# EAGLE library part H8S/2377R (library renesas)
H8S/2377R - TQFP 144 - 22 x 22 on 0.5mm pitch
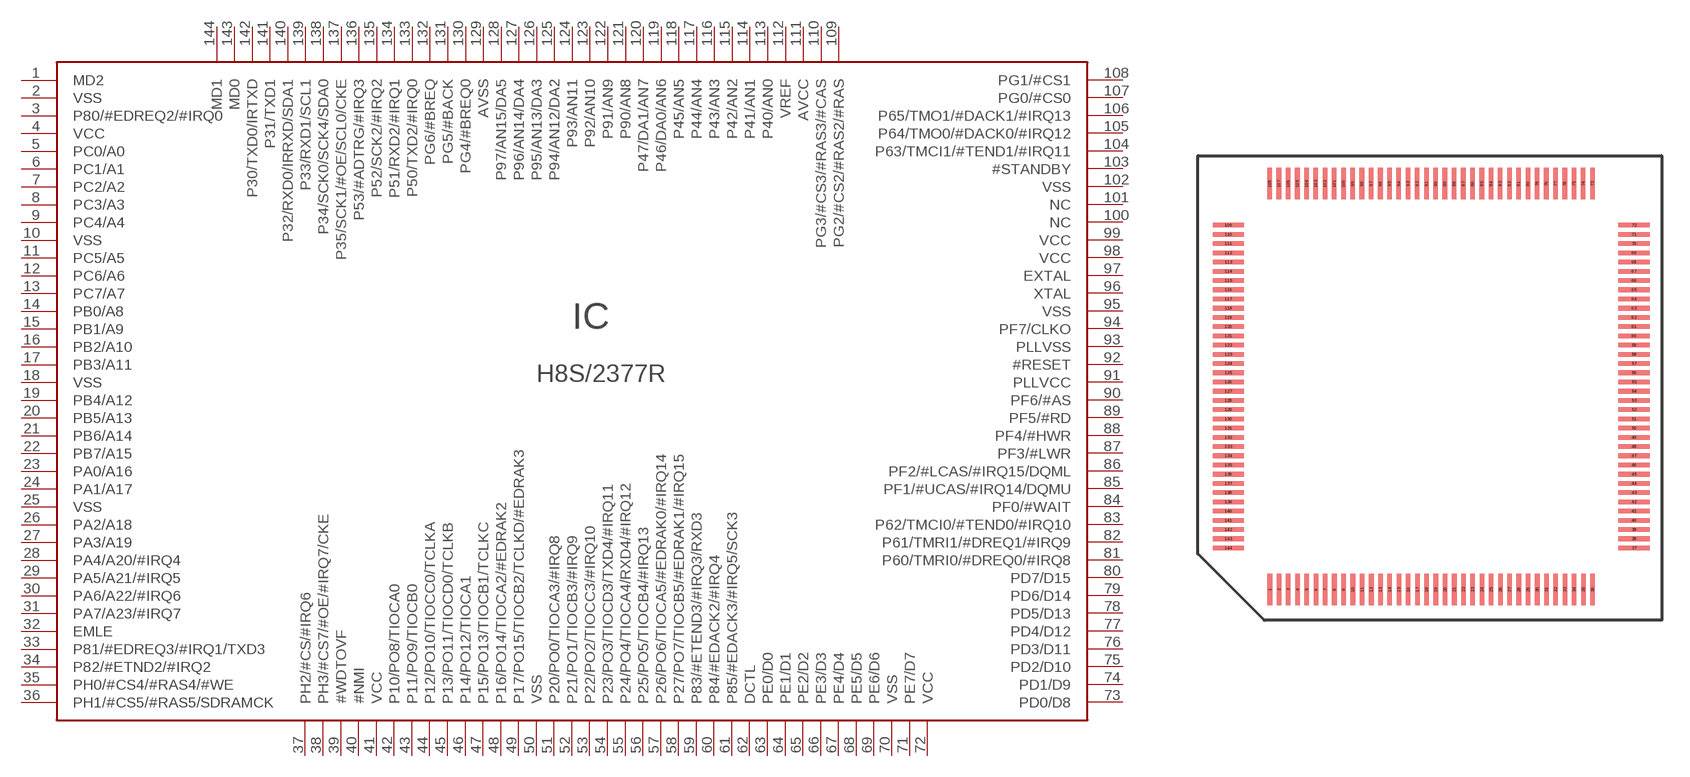
[diagram p42: symbol with the pads of TQFP144-22X22; footprint TQFP144-22X22]

Designator prefix IC

## H8S/2377R  [TQFP144-22X22]
1  MD2  in
2  VSS  pwr
3  P80/#EDREQ2/#IRQ0
4  VCC  pwr
5  PC0/A0
6  PC1/A1
7  PC2/A2
8  PC3/A3
9  PC4/A4
10  VSS  pwr
11  PC5/A5
12  PC6/A6
13  PC7/A7
14  PB0/A8
15  PB1/A9
16  PB2/A10
17  PB3/A11
18  VSS  pwr
19  PB4/A12
20  PB5/A13
21  PB6/A14
22  PB7/A15
23  PA0/A16
24  PA1/A17
25  VSS  pwr
26  PA2/A18
27  PA3/A19
28  PA4/A20/#IRQ4
29  PA5/A21/#IRQ5
30  PA6/A22/#IRQ6
31  PA7/A23/#IRQ7
32  EMLE  in
33  P81/#EDREQ3/#IRQ1/TXD3
34  P82/#ETND2/#IRQ2
35  PH0/#CS4/#RAS4/#WE
36  PH1/#CS5/#RAS5/SDRAMCK
37  PH2/#CS/#IRQ6
38  PH3/#CS7/#OE/#IRQ7/CKE
39  #WDTOVF  out
40  #NMI  in
41  VCC  pwr
42  P10/PO8/TIOCA0
43  P11/PO9/TIOCB0
44  P12/PO10/TIOCC0/TCLKA
45  P13/PO11/TIOCD0/TCLKB
46  P14/PO12/TIOCA1
47  P15/PO13/TIOCB1/TCLKC
48  P16/PO14/TIOCA2/#EDRAK2
49  P17/PO15/TIOCB2/TCLKD/#EDRAK3
50  VSS  pwr
51  P20/PO0/TIOCA3/#IRQ8
52  P21/PO1/TIOCB3/#IRQ9
53  P22/PO2/TIOCC3/#IRQ10
54  P23/PO3/TIOCD3/TXD4/#IRQ11
55  P24/PO4/TIOCA4/RXD4/#IRQ12
56  P25/PO5/TIOCB4/#IRQ13
57  P26/PO6/TIOCA5/#EDRAK0/#IRQ14
58  P27/PO7/TIOCB5/#EDRAK1/#IRQ15
59  P83/#ETEND3/#IRQ3/RXD3
60  P84/#EDACK2/#IRQ4
61  P85/#EDACK3/#IRQ5/SCK3
62  DCTL  in
63  PE0/D0
64  PE1/D1
65  PE2/D2
66  PE3/D3
67  PE4/D4
68  PE5/D5
69  PE6/D6
70  VSS  pwr
71  PE7/D7
72  VCC  pwr
73  PD0/D8
74  PD1/D9
75  PD2/D10
76  PD3/D11
77  PD4/D12
78  PD5/D13
79  PD6/D14
80  PD7/D15
81  P60/TMRI0/#DREQ0/#IRQ8
82  P61/TMRI1/#DREQ1/#IRQ9
83  P62/TMCI0/#TEND0/#IRQ10
84  PF0/#WAIT
85  PF1/#UCAS/#IRQ14/DQMU
86  PF2/#LCAS/#IRQ15/DQML
87  PF3/#LWR
88  PF4/#HWR
89  PF5/#RD
90  PF6/#AS
91  PLLVCC  pwr
92  #RESET  in
93  PLLVSS  pwr
94  PF7/CLKO
95  VSS  pwr
96  XTAL  pas
97  EXTAL  in
98  VCC  pwr
99  VCC  pwr
100  NC  nc
101  NC  nc
102  VSS  pwr
103  #STANDBY  in
104  P63/TMCI1/#TEND1/#IRQ11
105  P64/TMO0/#DACK0/#IRQ12
106  P65/TMO1/#DACK1/#IRQ13
107  PG0/#CS0
108  PG1/#CS1
109  PG2/#CS2/#RAS2/#RAS
110  PG3/#CS3/#RAS3/#CAS
111  AVCC  pwr
112  VREF  pwr
113  P40/AN0
114  P41/AN1
115  P42/AN2
116  P43/AN3
117  P44/AN4
118  P45/AN5
119  P46/DA0/AN6
120  P47/DA1/AN7
121  P90/AN8
122  P91/AN9
123  P92/AN10
124  P93/AN11
125  P94/AN12/DA2
126  P95/AN13/DA3
127  P96/AN14/DA4
128  P97/AN15/DA5
129  AVSS  pwr
130  PG4/#BREQ0
131  PG5/#BACK
132  PG6/#BREQ
133  P50/TXD2/#IRQ0
134  P51/RXD2/#IRQ1
135  P52/SCK2/#IRQ2
136  P53/#ADTRG/#IRQ3
137  P35/SCK1/#OE/SCL0/CKE
138  P34/SCK0/SCK4/SDA0
139  P33/RXD1/SCL1
140  P32/RXD0/IRRXD/SDA1
141  P31/TXD1
142  P30/TXD0/IRTXD
143  MD0  in
144  MD1  in

## Footprint TQFP144-22X22 (pad centres in mm)
TQFP144 pin 22 x 22 mm, pin pitch 0.5mm 0.25mm pad width
smd 0.25 x 1.7: 1 -8.75,-11.005; 2 -8.25,-11.005; 3 -7.75,-11.005; 4 -7.25,-11.005; 5 -6.75,-11.005; 6 -6.25,-11.005; 7 -5.75,-11.005; 8 -5.25,-11.005; 9 -4.75,-11.005; 10 -4.25,-11.005; 11 -3.75,-11.005; 12 -3.25,-11.005; 13 -2.75,-11.005; 14 -2.25,-11.005; 15 -1.75,-11.005; 16 -1.25,-11.005; 17 -0.75,-11.005; 18 -0.25,-11.005; 19 0.25,-11.005; 20 0.75,-11.005; 21 1.25,-11.005; 22 1.75,-11.005; 23 2.25,-11.005; 24 2.75,-11.005; 25 3.25,-11.005; 26 3.75,-11.005; 27 4.25,-11.005; 28 4.75,-11.005; 29 5.25,-11.005; 30 5.75,-11.005; 31 6.25,-11.005; 32 6.75,-11.005; 33 7.25,-11.005; 34 7.75,-11.005; 35 8.25,-11.005; 36 8.75,-11.005; 73 8.74,10.995; 74 8.24,10.995; 75 7.74,10.995; 76 7.24,10.995; 77 6.74,10.995; 78 6.24,10.995; 79 5.74,10.995; 80 5.24,10.995; 81 4.74,10.995; 82 4.24,10.995; 83 3.74,10.995; 84 3.24,10.995; 85 2.74,10.995; 86 2.24,10.995; 87 1.74,10.995; 88 1.24,10.995; 89 0.74,10.995; 90 0.24,10.995; 91 -0.26,10.995; 92 -0.76,10.995; 93 -1.26,10.995; 94 -1.76,10.995; 95 -2.26,10.995; 96 -2.76,10.995; 97 -3.26,10.995; 98 -3.76,10.995; 99 -4.26,10.995; 100 -4.76,10.995; 101 -5.26,10.995; 102 -5.76,10.995; 103 -6.26,10.995; 104 -6.76,10.995; 105 -7.26,10.995; 106 -7.76,10.995; 107 -8.26,10.995; 108 -8.76,10.995
smd 1.7 x 0.25: 37 11,-8.755; 38 11,-8.255; 39 11,-7.755; 40 11,-7.255; 41 11,-6.755; 42 11,-6.255; 43 11,-5.755; 44 11,-5.255; 45 11,-4.755; 46 11,-4.255; 47 11,-3.755; 48 11,-3.255; 49 11,-2.755; 50 11,-2.255; 51 11,-1.755; 52 11,-1.255; 53 11,-0.755; 54 11,-0.255; 55 11,0.245; 56 11,0.745; 57 11,1.245; 58 11,1.745; 59 11,2.245; 60 11,2.745; 61 11,3.245; 62 11,3.745; 63 11,4.245; 64 11,4.745; 65 11,5.245; 66 11,5.745; 67 11,6.245; 68 11,6.745; 69 11,7.245; 70 11,7.745; 71 11,8.245; 72 11,8.745; 109 -11,8.745; 110 -11,8.245; 111 -11,7.745; 112 -11,7.245; 113 -11,6.745; 114 -11,6.245; 115 -11,5.745; 116 -11,5.245; 117 -11,4.745; 118 -11,4.245; 119 -11,3.745; 120 -11,3.245; 121 -11,2.745; 122 -11,2.245; 123 -11,1.745; 124 -11,1.245; 125 -11,0.745; 126 -11,0.245; 127 -11,-0.255; 128 -11,-0.755; 129 -11,-1.255; 130 -11,-1.755; 131 -11,-2.255; 132 -11,-2.755; 133 -11,-3.255; 134 -11,-3.755; 135 -11,-4.255; 136 -11,-4.755; 137 -11,-5.255; 138 -11,-5.755; 139 -11,-6.255; 140 -11,-6.755; 141 -11,-7.255; 142 -11,-7.755; 143 -11,-8.255; 144 -11,-8.755